# Altium schematic symbol library LMV7271.Schlib: 1 symbol
Pins are listed as number, name and electrical type; pins without a type are passive.

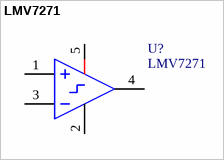
[diagram p0: symbol LMV7271]

## LMV7271
designator U?
Single Rail-to-Rail I/O Operational Amplifier
pins: 1 +IN (hiz), 2 GND (power), 3 IN- (hiz), 4 VOUT (hiz), 5 V+ (power)